# Altium schematic symbol library SMPM-PF-P-HG-ST-EM-1.Schlib: 1 symbol
Pins are listed as number, name and electrical type; pins without a type are passive.

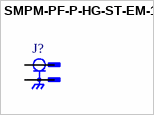
[diagram p0: symbol SMPM-PF-P-HG-ST-EM-1]

## SMPM-PF-P-HG-ST-EM-1
designator J?
RF Connectors / Coaxial Connectors SMPM Plug Edge Mount Full Detent
pins: 1, G1 2, G2 2